# Altium footprint library MY_LIB.PcbLib: 129 footprints (part 2 of 9)
Each footprint in its own frame and in the unit in brackets; x right, y up, seen from the top. Pads: shape width x height; smd on the part's side, far side on the other; paste and mask are expansions set on the pad; w line width, h text height; cw(c..) or ccw(c..) is an arc to the next point about the centre after c.
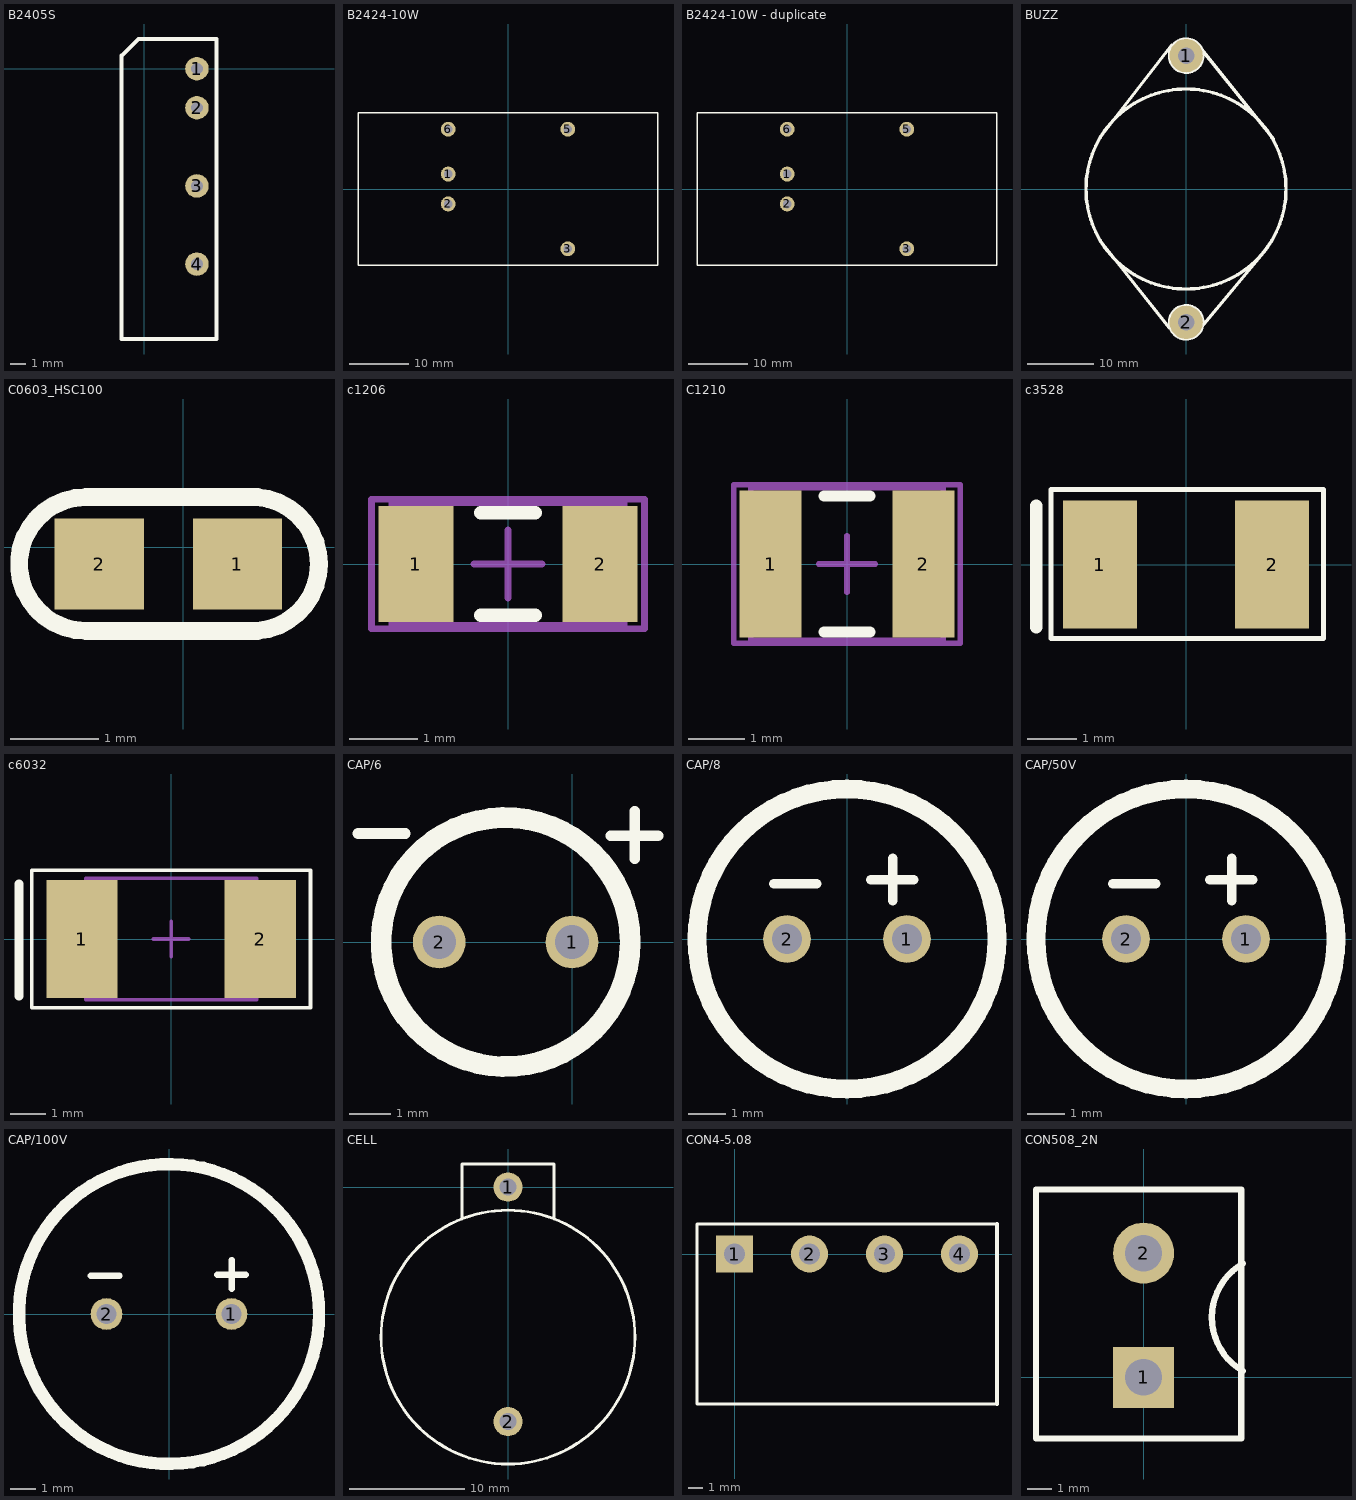
[diagram p1: the footprints below, top view; thin cyan lines are the x and y axes]

## B2405S [mil]
pads (4):
  round 60 hole 30: 1(135,0) 2(135,-100) 3(135,-300) 4(135,-500)
Top Overlay:
  lines w10: -58,-691.72 185,-691.72 185,75 ; -58,-691 -58,33.72 ; -58,33 -15,76 ; -14,76 185,76

## B2424-10W [mm]
pads (5):
  round 2.54 hole 1.5: 1(-10.16,2.54) 2(-10.16,-2.54) 3(10.16,-10.16) 5(10.16,10.16) 6(-10.16,10.16)
Top Overlay:
  lines w0.254: -25.5,-13 25.5,-13 25.5,13 -25.5,13 -25.5,-13

## B2424-10W - duplicate [mm]
pads (5):
  round 2.54 hole 1.5: 1(-10.16,2.54) 2(-10.16,-2.54) 3(10.16,-10.16) 5(10.16,10.16) 6(-10.16,10.16)
Top Overlay:
  lines w0.254: -25.5,-13 -25.5,13 25.5,13 25.5,-13 -25.5,-13

## BUZZ [mm]
pads (2):
  round 5 hole 2.5: 1(0,20) 2(0,-20)
Top Overlay:
  circle w0.5: c0,-20 r2.5
  circle w0.5: c0,20 r2.5
  circle w0.5: c-0.028,0 r15
  lines w0.508: -12.827,-7.874 -2.54,-20.828 ; -12.827,7.874 -2.159,21.59 ; 2.286,-20.701 11.938,-9.144 ; 2.286,20.955 13.081,7.493

## C0603_HSC100 [mil]
pads (2):
  rect 40x41 smd: 1(24.26,-7.46) 2(-37.74,-7.46)
Top Overlay:
  lines w8: 33.22,22.54 cw(c30.76,-7.46) 33.28,-37.46 ; 33.26,-37.46 -43.74,-37.46 cw(c-43.74,-7.46) -43.74,22.54 33.26,22.54

## c1206 [mm] "Chip Capacitor, Body 3.2x1.6mm, IPC High Density"
height 1.3
pads (2):
  rect 1.1x1.7 smd: 1(-1.35,0) 2(1.35,0)
Top Overlay:
  lines w0.2: -0.4,-0.75 0.4,-0.75 ; -0.4,0.75 0.4,0.75
Mechanical 13:
  lines w0.1: -1.7,-0.9 1.7,-0.9 1.7,0.9 -1.7,0.9 -1.7,-0.9
Mechanical 15:
  lines w0.1: -0.5,0 0.5,0 ; 0,-0.5 0,0.5 ; -2,-0.95 2,-0.95 2,0.95 -2,0.95 -2,-0.95
3D body: height 1.3, standoff 0, extent -1.7,-0.9 1.7,0.9

## C1210 [mm] "Chip Capacitor, Body 3.2x2.5mm, IPC High Density"
height 1.3
pads (2):
  rect 1.1x2.6 smd: 1(-1.35,0) 2(1.35,0)
Top Overlay:
  lines w0.2: -0.4,-1.2 0.4,-1.2 ; -0.4,1.2 0.4,1.2
Mechanical 13:
  lines w0.1: -1.7,-1.35 1.7,-1.35 1.7,1.35 -1.7,1.35 -1.7,-1.35
Mechanical 15:
  lines w0.1: -0.5,0 0.5,0 ; 0,-0.5 0,0.5 ; -2,-1.4 2,-1.4 2,1.4 -2,1.4 -2,-1.4
3D body: height 1.3, standoff 0, extent -1.7,-1.35 1.7,1.35

## c3528 [mm] "Chip Capacitor, Body 3.2x2.5mm, IPC High Density"
height 1.3
pads (2):
  rect 1.5x2.6 smd: 1(-1.75,0) 2(1.75,0)
Top Overlay:
  lines w0.1: -2.743,-1.499 -2.743,1.524 2.794,1.524 2.794,-1.499 -2.743,-1.499
  lines w0.254: -3.048,-1.27 -3.048,1.194

## c6032 [mm] "Chip Capacitor, Body 4.5x3.2mm, IPC High Density"
height 1.4
pads (2):
  rect 2x3.3 smd: 1(-2.5,0) 2(2.5,0)
Top Overlay:
  lines w0.1: -3.912,-1.93 -3.912,1.93 3.912,1.93 3.912,-1.93 -3.912,-1.93
  lines w0.254: -4.267,-1.6 -4.267,1.549
Mechanical 13:
  lines w0.1: -2.4,-1.7 -2.4,1.7 2.4,1.7 2.4,-1.7 -2.4,-1.7
Mechanical 15:
  lines w0.1: -0.5,0 0.5,0 ; 0,-0.5 0,0.5

## CAP/6 [mil]
pads (2):
  round 50 hole 32: 1(0,0) 2(-125.98,0)
Top Overlay:
  circle w19.68: c-62.99,0 r118.11
  lines w10: -203,103 -158,103 ; 36.5,101 81.5,101 ; 59.5,79 59.5,124

## CAP/8 [mm]
pads (2):
  round 1.27 hole 0.813: 1(1.6,0) 2(-1.6,0)
Top Overlay:
  circle w0.5: c0,0 r4
  lines w0.254: -1.956,1.473 -0.813,1.473 ; 0.635,1.575 1.778,1.575 ; 1.219,1.016 1.219,2.159

## CAP/50V [mm]
pads (2):
  round 1.27 hole 0.813: 1(1.6,0) 2(-1.6,0)
Top Overlay:
  circle w0.5: c0,0 r4
  lines w0.254: -1.956,1.473 -0.813,1.473 ; 0.635,1.575 1.778,1.575 ; 1.219,1.016 1.219,2.159

## CAP/100V [mm]
pads (2):
  round 1.27 hole 0.813: 1(2.5,0) 2(-2.5,0)
Top Overlay:
  circle w0.5: c0,0 r6
  lines w0.254: -3.124,1.524 -1.981,1.524 ; 1.931,1.575 3.074,1.575 ; 2.515,1.016 2.515,2.159

## CELL [mm]
pads (2):
  round 2.54 hole 1.5: 1(0,0) 2(0,-20.32)
Top Overlay:
  circle w0.254: c0,-13 r11
  lines w0.254: -4,-2.756 -4,2 4,2 4,-2.755

## CON4-5.08 [mm]
pads (4):
  rect 2.5x2.5 hole 1.4: 1(0,0)
  round 2.5 hole 1.4: 2(5.08,0) 3(10.16,0) 4(15.24,0)
Top Overlay:
  lines w0.203: 17.78,-10.16 -2.54,-10.16 -2.54,2.032 17.78,2.032
  lines w0.254: 17.78,-10.16 17.78,2.032

## CON508_2N [mm]
pads (2):
  rect 2.5x2.5 hole 1.5: 1(0,0)
  round 2.5 hole 1.5: 2(0,5.08)
Top Overlay:
  lines w0.254: 4.064,0.254 cw(c5.334,2.454) 4.064,4.653 ; -4.4,-2.5 -4.4,7.68 4,7.68 4,-2.5 -4.4,-2.5